# EAGLE library part D-SUB15- (library con-thomas-betts)
D-Subminiatur Connector Source: Electronioc Interconnects European Edition 1998
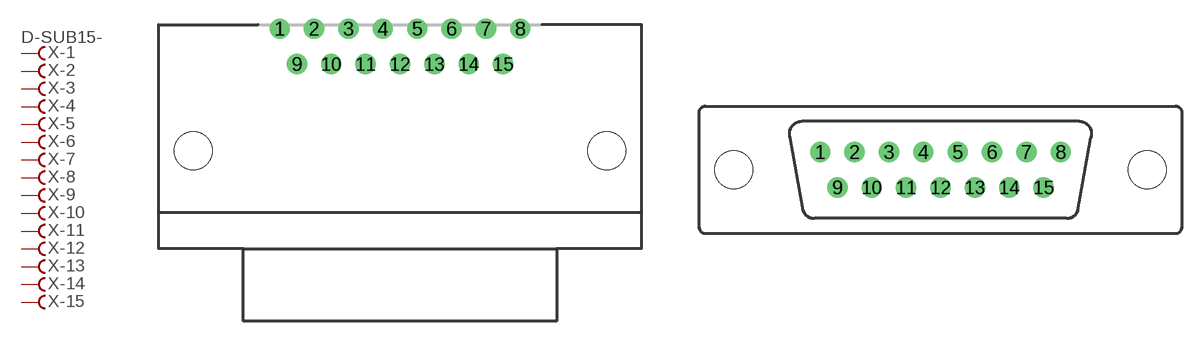
[diagram p21: symbol with the pads of H2M15RA; footprints H2M15RA, H2M15ST]

Designator prefix X; gates -1=FV -2=F -3=F -4=F -5=F -6=F -7=F -8=F -9=F -10=F -11=F -12=F -13=F -14=F -15=F

## D-SUB15-H2M15RA (MPN: H2M15RA29B; OC_FARNELL: unknown; OC_NEWARK: 93F8395)  [H2M15RA]
1  -1:F  pas
2  -2:F  pas
3  -3:F  pas
4  -4:F  pas
5  -5:F  pas
6  -6:F  pas
7  -7:F  pas
8  -8:F  pas
9  -9:F  pas
10  -10:F  pas
11  -11:F  pas
12  -12:F  pas
13  -13:F  pas
14  -14:F  pas
15  -15:F  pas

## D-SUB15-H2M15ST (OC_FARNELL: unknown; OC_NEWARK: unknown)  [H2M15ST]
Pads as for H2M15RA

## D-SUB15-H2R15RA (OC_FARNELL: unknown; OC_NEWARK: unknown)  [H2R15RA]
Pads as for H2M15RA

## D-SUB15-H2R15ST (OC_FARNELL: unknown; OC_NEWARK: unknown)  [H2R15ST]
Pads as for H2M15RA

## D-SUB15-H3M15RA (OC_FARNELL: unknown; OC_NEWARK: unknown)  [H3M15RA]
Pads as for H2M15RA

## D-SUB15-H5M15RA (MF: TYCO ELECTRONICS; MPN: H5M15RA29C; OC_FARNELL: unknown; OC_NEWARK: 93F8315)  [H5M15RA]
Pads as for H2M15RA

## D-SUB15-H5R15RA (MF: TYCO ELECTRONICS; MPN: H5R15RA29B; OC_FARNELL: unknown; OC_NEWARK: 93F8335)  [H5R15RA]
Pads as for H2M15RA

## D-SUB15-HDR15RA (OC_FARNELL: unknown; OC_NEWARK: unknown)  [HDR15RA]
Pads as for H2M15RA

## Footprint H2M15RA (pad centres in mm)
THOMAS&BETTS H2M15RA29A
drill 1.092: 1 -9.69,7.925; 2 -6.921,7.925; 3 -4.153,7.925; 4 -1.384,7.925; 5 1.384,7.925; 6 4.153,7.925; 7 6.921,7.925; 8 9.69,7.925; 9 -8.306,5.08; 10 -5.537,5.08; 11 -2.769,5.08; 12 0,5.08; 13 2.769,5.08; 14 5.537,5.08; 15 8.306,5.08
hole 3.048 at -16.662,-1.905
hole 3.048 at 16.662,-1.905

## Footprint H2M15ST (pad centres in mm)
THOMAS&BETTS H2M15ST29x
drill 1.092: 1 -9.69,1.422; 2 -6.921,1.422; 3 -4.153,1.422; 4 -1.384,1.422; 5 1.384,1.422; 6 4.153,1.422; 7 6.921,1.422; 8 9.69,1.422; 9 -8.306,-1.422; 10 -5.537,-1.422; 11 -2.769,-1.422; 12 0,-1.422; 13 2.769,-1.422; 14 5.537,-1.422; 15 8.306,-1.422
hole 3.048 at -16.662,0
hole 3.048 at 16.662,0

## Footprint H2R15RA (pad centres in mm)
THOMAS&BETTS H2R15RA29A
drill 1.092: 1 9.69,7.925; 2 6.921,7.925; 3 4.153,7.925; 4 1.384,7.925; 5 -1.384,7.925; 6 -4.153,7.925; 7 -6.921,7.925; 8 -9.69,7.925; 9 8.306,5.08; 10 5.537,5.08; 11 2.769,5.08; 12 0,5.08; 13 -2.769,5.08; 14 -5.537,5.08; 15 -8.306,5.08
hole 3.048 at -16.662,-1.905
hole 3.048 at 16.662,-1.905

## Footprint H2R15ST (pad centres in mm)
THOMAS&BETTS H2R15ST29x
drill 1.092: 1 9.69,1.422; 2 6.921,1.422; 3 4.153,1.422; 4 1.384,1.422; 5 -1.384,1.422; 6 -4.153,1.422; 7 -6.921,1.422; 8 -9.69,1.422; 9 8.306,-1.422; 10 5.537,-1.422; 11 2.769,-1.422; 12 0,-1.422; 13 -2.769,-1.422; 14 -5.537,-1.422; 15 -8.306,-1.422
hole 3.048 at -16.662,0
hole 3.048 at 16.662,0

## Footprint H3M15RA (pad centres in mm)
THOMAS&BETTS H3M15RA29A
drill 1.092: 1 -9.69,1.422; 2 -6.921,1.422; 3 -4.153,1.422; 4 -1.384,1.422; 5 1.384,1.422; 6 4.153,1.422; 7 6.921,1.422; 8 9.69,1.422; 9 -8.306,-1.422; 10 -5.537,-1.422; 11 -2.769,-1.422; 12 0,-1.422; 13 2.769,-1.422; 14 5.537,-1.422; 15 8.306,-1.422
hole 3.048 at -16.662,0
hole 3.048 at 16.662,0

## Footprint H5M15RA (pad centres in mm)
THOMAS&BETTS H3M15RA29A
drill 1.092: 1 -9.69,1.422; 2 -6.921,1.422; 3 -4.153,1.422; 4 -1.384,1.422; 5 1.384,1.422; 6 4.153,1.422; 7 6.921,1.422; 8 9.69,1.422; 9 -8.306,-1.422; 10 -5.537,-1.422; 11 -2.769,-1.422; 12 0,-1.422; 13 2.769,-1.422; 14 5.537,-1.422; 15 8.306,-1.422
hole 3.048 at -16.662,0
hole 3.048 at 16.662,0

## Footprint H5R15RA (pad centres in mm)
THOMAS&BETTS H5R15RA29A
drill 1.092: 1 9.69,1.422; 2 6.921,1.422; 3 4.153,1.422; 4 1.384,1.422; 5 -1.384,1.422; 6 -4.153,1.422; 7 -6.921,1.422; 8 -9.69,1.422; 9 8.306,-1.422; 10 5.537,-1.422; 11 2.769,-1.422; 12 0,-1.422; 13 -2.769,-1.422; 14 -5.537,-1.422; 15 -8.306,-1.422
hole 3.048 at -16.662,0
hole 3.048 at 16.662,0

## Footprint HDR15RA (pad centres in mm)
THOMAS&BETTS HDR15RA2xxxxx
drill 1.016: 1 4.318,2.54; 2 2.032,2.54; 3 -0.254,2.54; 4 -2.54,2.54; 5 -4.826,2.54; 6 5.461,0; 7 3.175,0; 8 0.889,0; 9 -1.397,0; 10 -3.683,0; 11 4.318,-2.54; 12 2.032,-2.54; 13 -0.254,-2.54; 14 -2.54,-2.54; 15 -4.826,-2.54
hole 3.048 at -12.497,0
hole 3.048 at 12.497,0